# EAGLE library part PI_COBBLER (library scraptcha)
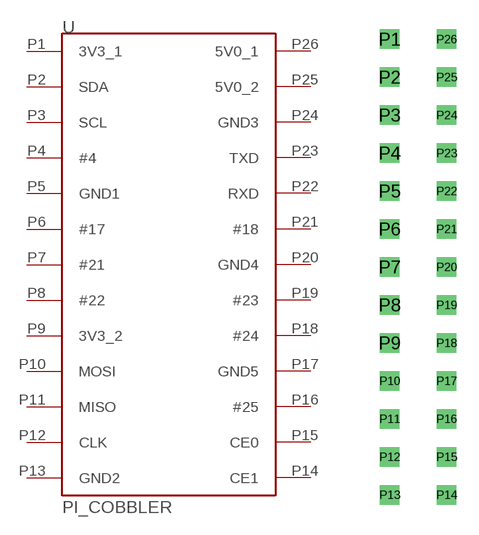
[diagram p0: symbol with the pads of 2X13_HDR; footprint 2X13_HDR]

Designator prefix -

## PI_COBBLER  [2X13_HDR]
P1  3V3_1
P2  SDA
P3  SCL
P4  #4
P5  GND1
P6  #17
P7  #21
P8  #22
P9  3V3_2
P10  MOSI
P11  MISO
P12  CLK
P13  GND2
P14  CE1
P15  CE0
P16  #25
P17  GND5
P18  #24
P19  #23
P20  GND4
P21  #18
P22  RXD
P23  TXD
P24  GND3
P25  5V0_2
P26  5V0_1

## Footprint 2X13_HDR (pad centres in mm)
drill 0.8 square: P1 -1.27,20.32; P2 -1.27,17.78; P3 -1.27,15.24; P4 -1.27,12.7; P5 -1.27,10.16; P6 -1.27,7.62; P7 -1.27,5.08; P8 -1.27,2.54; P9 -1.27,0; P10 -1.27,-2.54; P11 -1.27,-5.08; P12 -1.27,-7.62; P13 -1.27,-10.16; P14 2.54,-10.16; P15 2.54,-7.62; P16 2.54,-5.08; P17 2.54,-2.54; P18 2.54,0; P19 2.54,2.54; P20 2.54,5.08; P21 2.54,7.62; P22 2.54,10.16; P23 2.54,12.7; P24 2.54,15.24; P25 2.54,17.78; P26 2.54,20.32